# Altium footprint library WE-SCFA.PcbLib: 17 footprints (part 1 of 2)
Each footprint in its own frame and in the unit in brackets; x right, y up, seen from the top. Pads: shape width x height; smd on the part's side, far side on the other; paste and mask are expansions set on the pad; w line width, h text height; cw(c..) or ccw(c..) is an arc to the next point about the centre after c.
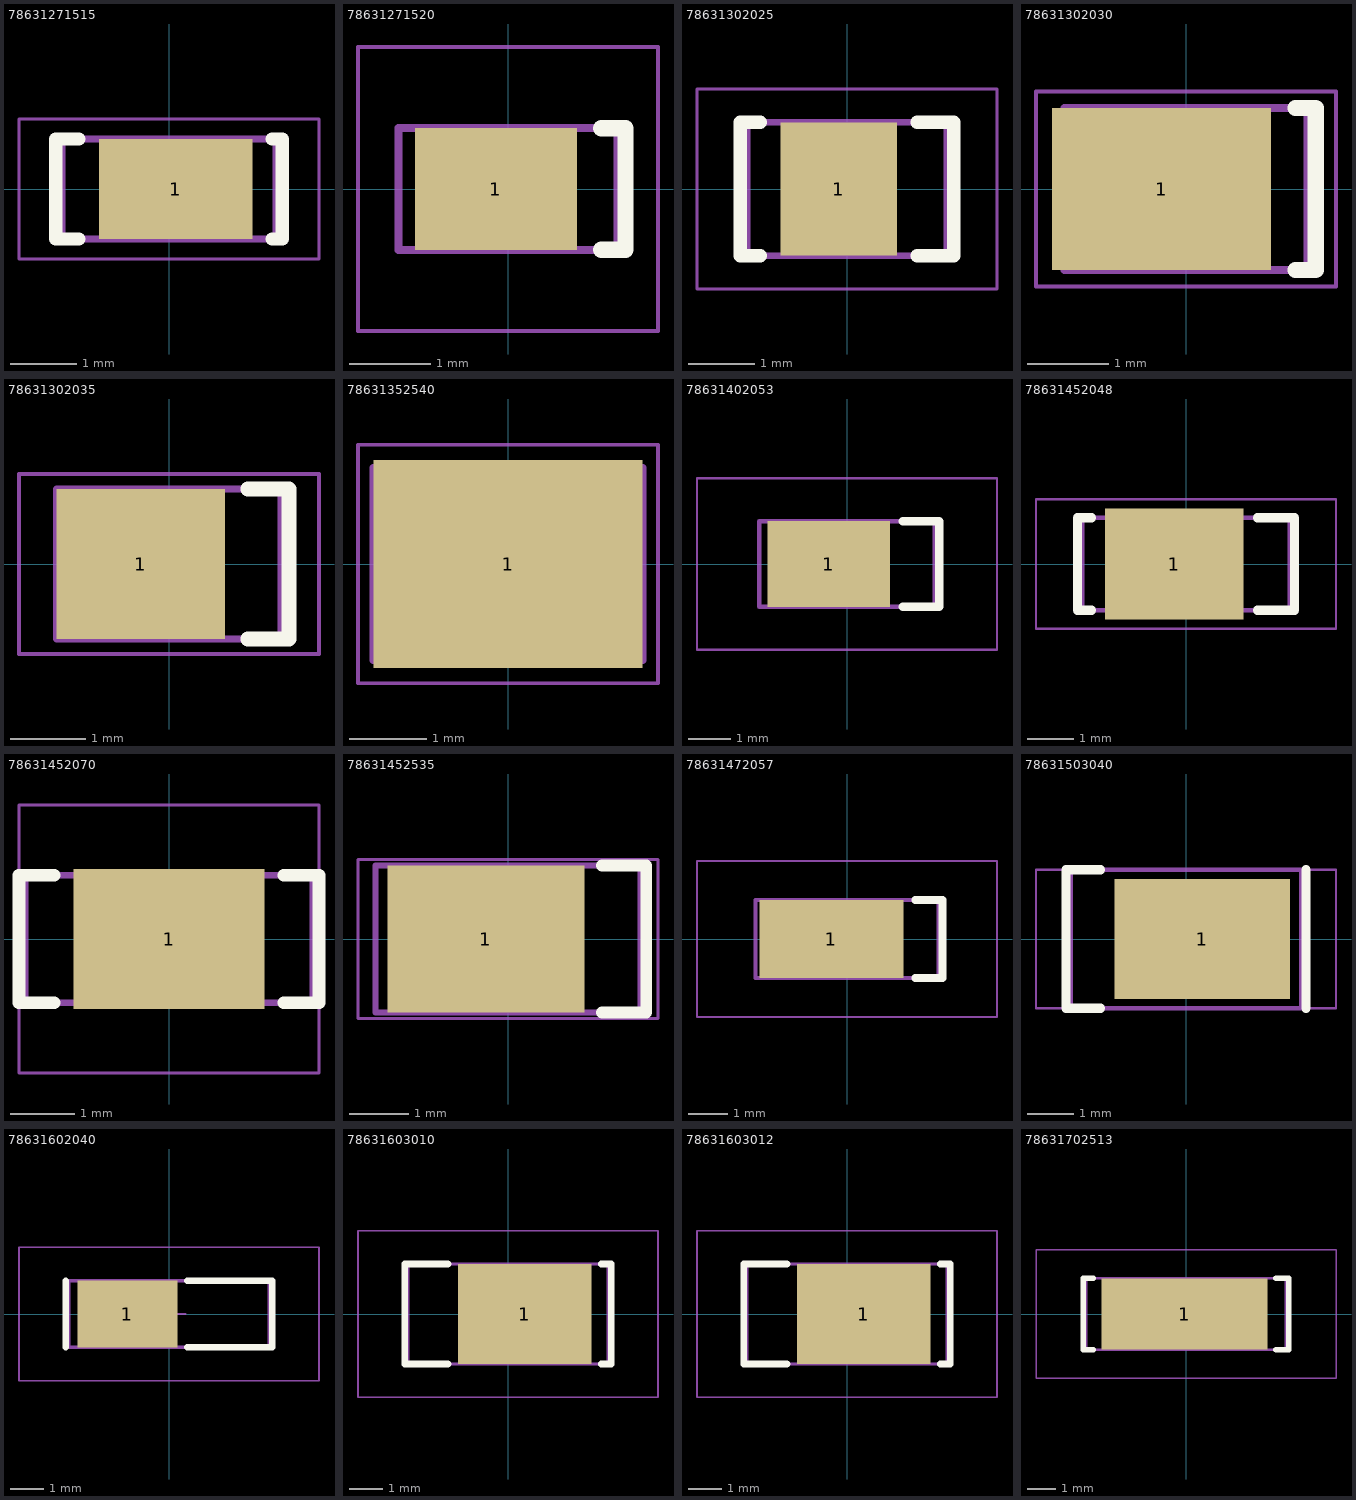
[diagram p0: the footprints below, top view; thin cyan lines are the x and y axes]

## 78631271515 [mm] "SMD EMI Contact Finger, 3.2x1.5mm"
height 1.7
pads (1):
  rect 2.3x1.5 smd: 1(0.1,0)
Top Overlay:
  lines w0.2: -1.35,-0.75 -1.7,-0.75 -1.7,0.75 -1.35,0.75 ; 1.55,-0.75 1.7,-0.75 1.7,0.75 1.55,0.75
Top Designator:
  text ".Designator" at -4.998,-0.333 h1
Top Component Outline:
  lines w0.1: -1.6,-0.75 1.6,-0.75 1.6,0.75 -1.6,0.75 -1.6,-0.75
Top 3D Body:
  lines w0.1: -1.6,-0.75 -1.6,0.75 1.6,0.75 1.6,-0.75 -1.6,-0.75
Top Courtyard:
  lines w0.05: -0.5,0 0.5,0 ; 0,-0.5 0,0.5 ; -2.25,-1.05 2.25,-1.05 2.25,1.05 -2.25,1.05 -2.25,-1.05
3D body "331031321515.stp": height 1.49, standoff -0.01, extent -1.6,-0.75 1.6,0.75

## 78631271520 [mm] "SMD EMI Contact Finger, 2.7x1.5mm"
height 2.2
pads (1):
  rect 2x1.5 smd: 1(-0.15,0)
Top Overlay:
  lines w0.2: 1.15,-0.75 1.45,-0.75 1.45,0.75 1.15,0.75
Top Designator:
  text ".Designator" at -4.998,-0.333 h1
Top Component Outline:
  lines w0.1: -1.35,-0.75 1.35,-0.75 1.35,0.75 -1.35,0.75 -1.35,-0.75
Top 3D Body:
  lines w0.1: -1.35,-0.75 -1.35,0.75 1.35,0.75 1.35,-0.75 -1.35,-0.75
Top Courtyard:
  lines w0.05: -0.5,0 0.5,0 ; 0,-0.5 0,0.5 ; -1.85,-1.75 -1.85,1.75 1.85,1.75 1.85,-1.75 -1.85,-1.75
3D body "33103x271520.stp": height 2, standoff 0, extent -1.349,-0.75 1.349,0.75

## 78631302025 [mm] "SMD EMI Contact Finger, 3x2mm"
height 2.7
pads (1):
  rect 1.75x2 smd: 1(-0.125,0)
Top Overlay:
  lines w0.2: -1.3,-1 -1.6,-1 -1.6,1 -1.3,1 ; 1.05,-1 1.6,-1 1.6,1 1.05,1
Top Designator:
  text ".Designator" at -4.998,-0.333 h1
Top Component Outline:
  lines w0.1: -1.5,-1 -1.5,1 1.5,1 1.5,-1 -1.5,-1
Top 3D Body:
  lines w0.1: -1.5,-1 1.5,-1 1.5,1 -1.5,1 -1.5,-1
Top Courtyard:
  lines w0.05: -0.5,0 0.5,0 ; 0,-0.5 0,0.5 ; -2.25,-1.5 2.25,-1.5 2.25,1.5 -2.25,1.5 -2.25,-1.5
3D body "78631302025.stp": height 2.5, standoff 0, extent -1.5,-1 1.5,1

## 78631302030 [mm] "SMD EMI Contact Finger, 3x2mm"
height 3.2
pads (1):
  rect 2.7x2 smd: 1(-0.3,0)
Top Overlay:
  lines w0.2: 1.35,-1 1.6,-1 1.6,1 1.35,1
Top Designator:
  text ".Designator" at -4.998,-0.333 h1
Top Component Outline:
  lines w0.1: -1.5,-1 -1.5,1 1.5,1 1.5,-1 -1.5,-1
Top 3D Body:
  lines w0.1: -1.5,-1 1.5,-1 1.5,1 -1.5,1 -1.5,-1
Top Courtyard:
  lines w0.05: -0.5,0 0.5,0 ; 0,-0.5 0,0.5 ; -1.85,-1.2 -1.85,1.2 1.85,1.2 1.85,-1.2 -1.85,-1.2
3D body "33117x302030.stp": height 3, standoff 0, extent -1.5,-1 1.5,1

## 78631302035 [mm] "SMD EMI Contact Finger, 3x2mm"
height 3.7
pads (1):
  rect 2.25x2 smd: 1(-0.375,0)
Top Overlay:
  lines w0.2: 1.05,-1 1.6,-1 1.6,1 1.05,1
Top Designator:
  text ".Designator" at -4.998,-0.333 h1
Top Component Outline:
  lines w0.1: -1.5,-1 -1.5,1 1.5,1 1.5,-1 -1.5,-1
Top 3D Body:
  lines w0.1: -1.5,-1 1.5,-1 1.5,1 -1.5,1 -1.5,-1
Top Courtyard:
  lines w0.05: -0.5,0 0.5,0 ; 0,-0.5 0,0.5 ; -2,-1.2 -2,1.2 2,1.2 2,-1.2 -2,-1.2
3D body "331171302035.stp": height 3.5, standoff 0, extent -1.5,-1 1.5,1

## 78631352540 [mm] "SMD EMI Contact Finger, 3.5x2.5mm"
height 4.2
pads (1):
  rect 3.5x2.7 smd: 1(0,0)
Top Designator:
  text ".Designator" at -4.998,-0.333 h1
Top Component Outline:
  lines w0.1: -1.75,-1.25 -1.75,1.25 1.75,1.25 1.75,-1.25 -1.75,-1.25
Top 3D Body:
  lines w0.1: -1.75,-1.25 1.75,-1.25 1.75,1.25 -1.75,1.25 -1.75,-1.25
Top Courtyard:
  lines w0.05: -0.5,0 0.5,0 ; 0,-0.5 0,0.5 ; -1.95,-1.55 -1.95,1.55 1.95,1.55 1.95,-1.55 -1.95,-1.55
3D body "33114x352540.stp": height 4, standoff 0, extent -1.75,-1.25 1.75,1.25

## 78631402053 [mm] "SMD EMI Contact Finger, 4.1x2mm"
height 5.5
pads (1):
  rect 2.85x2 smd: 1(-0.425,0)
Top Overlay:
  lines w0.2: 1.3,-1 2.15,-1 2.15,1 1.3,1
Top Designator:
  text ".Designator" at -4.998,-0.333 h1
Top Component Outline:
  lines w0.1: -2.05,-1 -2.05,1 2.05,1 2.05,-1 -2.05,-1
Top 3D Body:
  lines w0.1: -2.05,-1 2.05,-1 2.05,1 -2.05,1 -2.05,-1
Top Courtyard:
  lines w0.05: -0.5,0 0.5,0 ; 0,-0.5 0,0.5 ; -3.5,-2 3.5,-2 3.5,2 -3.5,2 -3.5,-2
3D body "33104x402053.stp": height 5.3, standoff 0, extent -2.015,-1 2.015,1

## 78631452048 [mm] "SMD EMI Contact Finger, 4.7x2mm"
height 5
pads (1):
  rect 3x2.4 smd: 1(-0.25,0)
Top Overlay:
  lines w0.2: -2.05,-1 -2.35,-1 -2.35,1 -2.05,1 ; 1.55,-1 2.35,-1 2.35,1 1.55,1
Top Designator:
  text ".Designator" at -4.998,-0.333 h1
Top Component Outline:
  lines w0.1: -2.25,-1 -2.25,1 2.25,1 2.25,-1 -2.25,-1
Top 3D Body:
  lines w0.1: -2.25,-1 2.25,-1 2.25,1 -2.25,1 -2.25,-1
Top Courtyard:
  lines w0.05: -0.5,0 0.5,0 ; 0,-0.5 0,0.5 ; -3.25,-1.4 -3.25,1.4 3.25,1.4 3.25,-1.4 -3.25,-1.4
3D body "78631452048.stp": height 4.8, standoff 0, extent -2.266,-1 2.264,1

## 78631452070 [mm] "SMD EMI Contact Finger, 4.5x2mm"
height 7.2
pads (1):
  rect 3x2.2 smd: 1(0,0)
Top Overlay:
  lines w0.2: -1.8,-1 -2.35,-1 -2.35,1 -1.8,1 ; 1.8,-1 2.35,-1 2.35,1 1.8,1
Top Designator:
  text ".Designator" at -4.998,-0.333 h1
Top Component Outline:
  lines w0.1: -2.25,-1 -2.25,1 2.25,1 2.25,-1 -2.25,-1
Top 3D Body:
  lines w0.1: -2.25,-1 2.25,-1 2.25,1 -2.25,1 -2.25,-1
Top Courtyard:
  lines w0.05: -0.5,0 0.5,0 ; 0,-0.5 0,0.5 ; -2.35,-2.1 2.35,-2.1 2.35,2.1 -2.35,2.1 -2.35,-2.1
3D body "78631452070.stp": height 7, standoff 0, extent -2.25,-1 2.25,1

## 78631452535 [mm] "SMD EMI Contact Finger, 4.7x2.5mm"
height 3.7
pads (1):
  rect 3.35x2.5 smd: 1(-0.375,0)
Top Overlay:
  lines w0.2: 1.6,-1.25 2.35,-1.25 2.35,1.25 1.6,1.25
Top Designator:
  text ".Designator" at -5.998,-0.4 h1.2
Top Component Outline:
  lines w0.1: -2.25,-1.25 -2.25,1.25 2.25,1.25 2.25,-1.25 -2.25,-1.25
Top 3D Body:
  lines w0.1: -2.25,-1.25 2.25,-1.25 2.25,1.25 -2.25,1.25 -2.25,-1.25
Top Courtyard:
  lines w0.05: -0.5,0 0.5,0 ; 0,-0.5 0,0.5 ; -2.55,-1.35 -2.55,1.35 2.55,1.35 2.55,-1.35 -2.55,-1.35
3D body "331011452535.stp": height 3.5, standoff 0, extent -2.249,-1.25 2.251,1.25

## 78631472057 [mm] "SMD EMI Contact Finger, 4.7x2mm"
height 5.9
pads (1):
  rect 3.7x2 smd: 1(-0.4,0)
Top Overlay:
  lines w0.2: 1.75,-1 2.45,-1 2.45,1 1.75,1
Top Designator:
  text ".Designator" at -5.998,-0.4 h1.2
Top Component Outline:
  lines w0.1: -2.35,-1 -2.35,1 2.35,1 2.35,-1 -2.35,-1
Top 3D Body:
  lines w0.1: -2.35,-1 2.35,-1 2.35,1 -2.35,1 -2.35,-1
Top Courtyard:
  lines w0.05: -0.5,0 0.5,0 ; 0,-0.5 0,0.5 ; -3.85,-2 -3.85,2 3.85,2 3.85,-2 -3.85,-2
3D body "78631472057.stp": height 5.7, standoff 0, extent -2.348,-1 2.348,1

## 78631503040 [mm] "SMD EMI Contact Finger, 5x3mm"
height 4.2
pads (1):
  rect 3.8x2.6 smd: 1(0.35,0)
Top Overlay:
  lines w0.2: -1.85,-1.5 -2.6,-1.5 -2.6,1.5 -1.85,1.5 ; 2.6,-1.5 2.6,1.5
Top Designator:
  text ".Designator" at -5.998,-0.4 h1.2
Top Component Outline:
  lines w0.1: -2.5,-1.5 -2.5,1.5 2.5,1.5 2.5,-1.5 -2.5,-1.5
Top 3D Body:
  lines w0.1: -2.5,-1.5 2.5,-1.5 2.5,1.5 -2.5,1.5 -2.5,-1.5
Top Courtyard:
  lines w0.05: -0.5,0 0.5,0 ; 0,-0.5 0,0.5 ; -3.25,-1.5 -3.25,1.5 3.25,1.5 3.25,-1.5 -3.25,-1.5
3D body "78631503040.stp": height 4, standoff 0, extent -2.499,-1.5 2.5,1.5

## 78631602040 [mm] "SMD EMI Contact Finger, 6x2mm"
height 4.2
pads (1):
  rect 3x2 smd: 1(-1.25,0)
Top Overlay:
  lines w0.2: -3.1,-1 -3.1,1 ; 0.55,-1 3.1,-1 3.1,1 0.55,1
Top Designator:
  text ".Designator" at -5.998,-0.4 h1.2
Top Component Outline:
  lines w0.1: -3,-1 -3,1 3,1 3,-1 -3,-1
Top 3D Body:
  lines w0.1: -3,-1 3,-1 3,1 -3,1 -3,-1
Top Courtyard:
  lines w0.05: -0.5,0 0.5,0 ; 0,-0.5 0,0.5 ; -4.5,-2 -4.5,2 4.5,2 4.5,-2 -4.5,-2
3D body "331221602040.stp": height 4, standoff 0, extent -2.995,-1 2.995,1

## 78631603010 [mm] "SMD EMI Contact Finger, 6x3mm"
height 10.2
pads (1):
  rect 4x3 smd: 1(0.5,0)
Top Overlay:
  lines w0.2: -1.8,-1.5 -3.1,-1.5 -3.1,1.5 -1.8,1.5 ; 2.8,-1.5 3.1,-1.5 3.1,1.5 2.8,1.5
Top Designator:
  text ".Designator" at -5.998,-0.4 h1.2
Top Component Outline:
  lines w0.1: -3,-1.5 3,-1.5 3,1.5 -3,1.5 -3,-1.5
Top 3D Body:
  lines w0.1: -3,-1.5 -3,1.5 3,1.5 3,-1.5 -3,-1.5
Top Courtyard:
  lines w0.05: -0.5,0 0.5,0 ; 0,-0.5 0,0.5 ; -4.5,-2.5 -4.5,2.5 4.5,2.5 4.5,-2.5 -4.5,-2.5
3D body "78631603010.stp": height 10, standoff 0, extent -3,-1.5 3,1.5

## 78631603012 [mm] "SMD EMI Contact Finger, 6x3mm"
height 12
pads (1):
  rect 4x3 smd: 1(0.5,0)
Top Overlay:
  lines w0.2: -1.8,-1.5 -3.1,-1.5 -3.1,1.5 -1.8,1.5 ; 2.8,-1.5 3.1,-1.5 3.1,1.5 2.8,1.5
Top Designator:
  text ".Designator" at -5.998,-0.4 h1.2
Top Component Outline:
  lines w0.1: -3,-1.5 3,-1.5 3,1.5 -3,1.5 -3,-1.5
Top 3D Body:
  lines w0.1: -3,-1.5 -3,1.5 3,1.5 3,-1.5 -3,-1.5
Top Courtyard:
  lines w0.05: -0.5,0 0.5,0 ; 0,-0.5 0,0.5 ; -4.5,-2.5 -4.5,2.5 4.5,2.5 4.5,-2.5 -4.5,-2.5
3D body "78631603012.stp": height 12, standoff 0, extent -3.25,-1.5 3.25,1.5

## 78631702513 [mm] "SMD EMI Contact Finger, 7x2.5mm"
height 13.2
pads (1):
  rect 5.8x2.5 smd: 1(-0.05,0)
Top Overlay:
  lines w0.2: -3.25,-1.25 -3.6,-1.25 -3.6,1.25 -3.25,1.25 ; 3.15,-1.25 3.6,-1.25 3.6,1.25 3.15,1.25
Top Designator:
  text ".Designator" at -5.998,-0.4 h1.2
Top Component Outline:
  lines w0.1: -3.5,-1.25 -3.5,1.25 3.5,1.25 3.5,-1.25 -3.5,-1.25
Top 3D Body:
  lines w0.1: -3.5,-1.25 3.5,-1.25 3.5,1.25 -3.5,1.25 -3.5,-1.25
Top Courtyard:
  lines w0.05: -0.5,0 0.5,0 ; 0,-0.5 0,0.5 ; -5.25,-2.25 -5.25,2.25 5.25,2.25 5.25,-2.25 -5.25,-2.25
3D body "78631702513.stp": height 13, standoff 0, extent -3.5,-1.25 3.5,1.25